# EAGLE library part 503182-1852 (library 503182-1852)
Micro SD Normal UltraLowPro8CktEmbsTpPkg Source: Datasheet <https://www.molex.com/pdm_docs/sd/5031821852_sd.pdf>
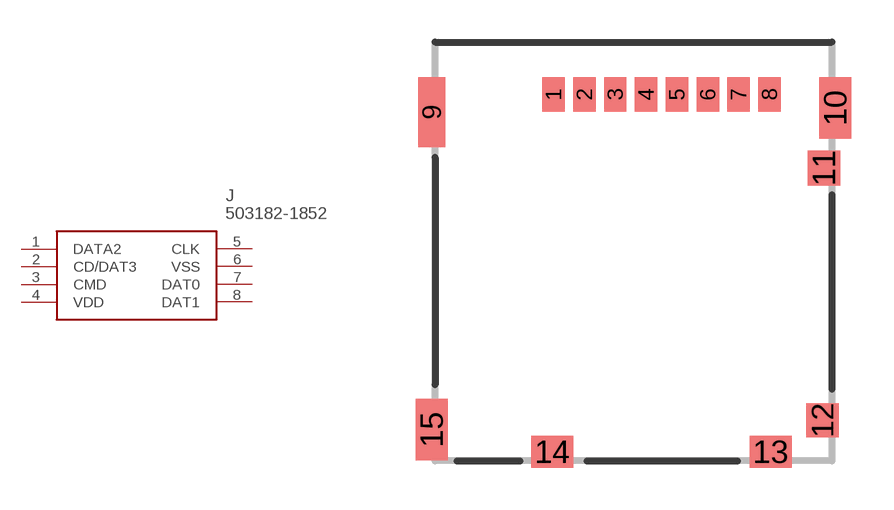
[diagram p0: symbol with the pads of 5031821852; footprint 5031821852]

Designator prefix J

## 503182-1852 (Description: Micro SD Normal UltraLowPro8CktEmbsTpPkg; Height: mm; Manufacturer_Name: Molex; Manufacturer_Part_Number: 503182-1852; Mouser_Part_Number: 538-503182-1852; Mouser_Price-Stock: https://www.mouser.co.uk/ProductDetail/Molex/503182-1852?qs=s7UCm7gO1bZmpyAhCKZ26g%3D%3D)  [5031821852]
1  DATA2
2  CD/DAT3
3  CMD
4  VDD
5  CLK
6  VSS
7  DAT0
8  DAT1

## Footprint 5031821852 (pad centres in mm)
5031821852
smd 0.8 x 1.24: 1 -2.85,0.63; 2 -1.75,0.63; 3 -0.65,0.63; 4 0.45,0.63; 5 1.55,0.63; 6 2.65,0.63; 7 3.75,0.63; 8 4.85,0.63
smd 0.95 x 2.5: 9 -7.195,0
smd 1.15 x 2.2: 10 7.195,0.15; 15 -7.195,-11.33
smd 1.16 x 1.25: 11 6.795,-2
smd 1.16 x 1.2: 12 6.74,-11
smd 1.5 x 1.15: 13 4.89,-12.125; 14 -2.89,-12.125